# Altium schematic symbol library Microchip Interface.SchLib: 331 symbols (part 5 of 10)
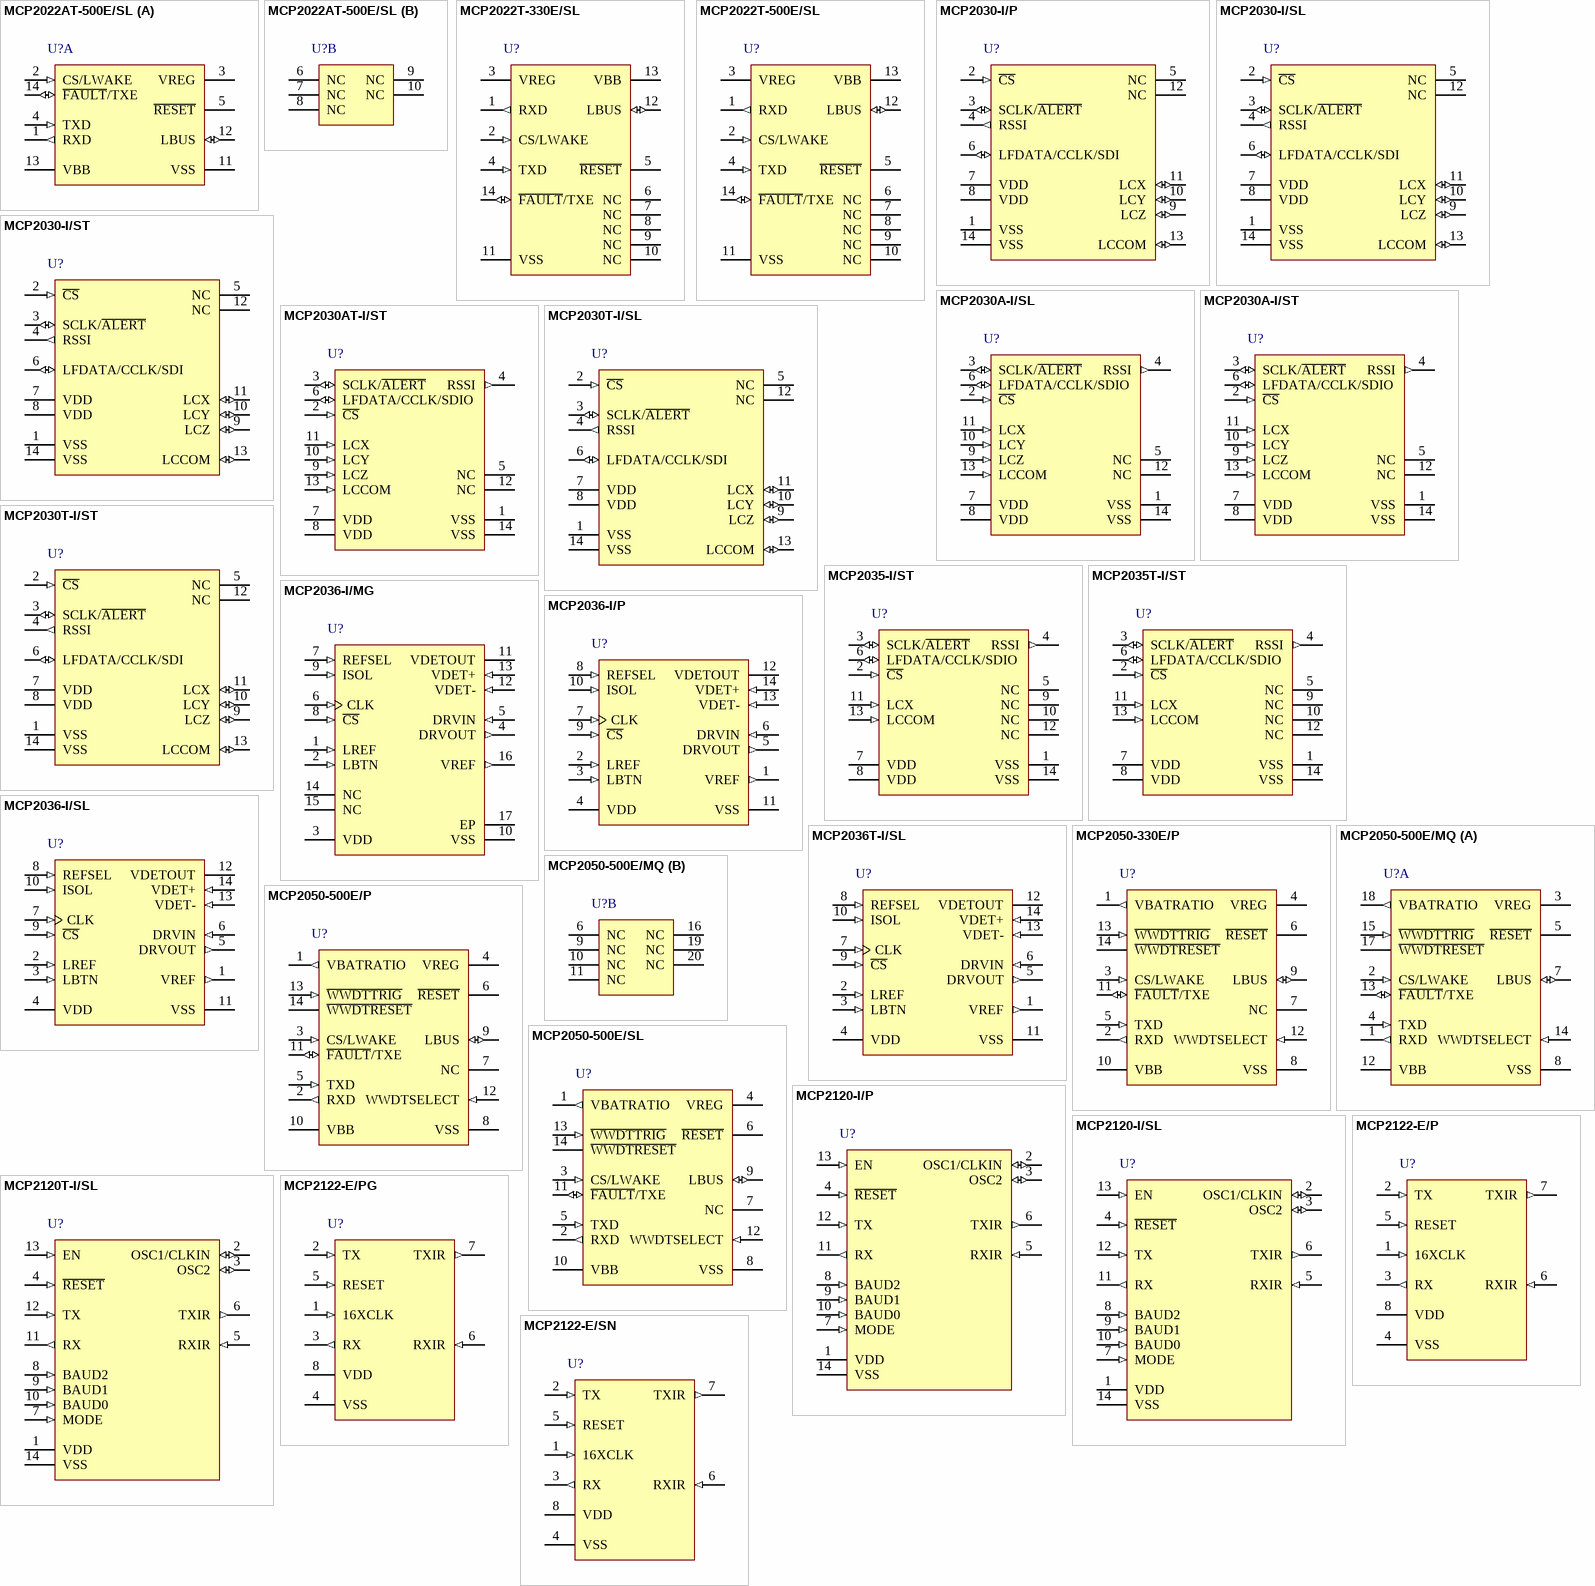
[diagram p17: symbols MCP2022AT-500E/SL to MCP2122-E/SN]

## MCP2036T-I/SL
designator U?
Inductive Sensor Analog Front End Device, -40 to 85 degC, 14-pin SOIC (SL14), Tape and Reel; Manufacturer: Microchip; PartNumber: MCP2036T-I/SL; DatasheetVersion: Rev. C; PackageVersion: C04-065C; PackageReference: SOIC-SL14; PackageDescription: 14-Lead Plastic Small Outline, 8.65 x 3.9 mm Body, 1.27 mm Pitch; Supplier 1: Digi-Key; Supplier Part Number 1: MCP2036T-I/SL-ND; Mounting Technology: Surface Mount; ComponentLink1Description: Manufacturer URL; ComponentLink1URL: http://www.microchip.com; ComponentLink2Description: Datasheet; ComponentLink2URL: http://ww1.microchip.com/downloads/en/DeviceDoc/22186C.pdf; ComponentLink3Description: Package Specification; ComponentLink3URL: http://www.microchip.com/stellent/groups/techpub_sg/documents/packagingspec/en012702.pdf; ComponentLink4Description: Product URL; ComponentLink4URL: http://www.microchip.com/MCP2036
footprint MCHP-SOIC-SL14_N (SOIC, 14-Leads, Body 8.65x3.9mm, Pitch 1.27mm, IPC Medium Density)
footprint MCHP-SOIC-SL14_L (SOIC, 14-Leads, Body 8.65x3.9mm, Pitch 1.27mm, IPC High Density)
footprint MCHP-SOIC-SL14_M (SOIC, 14-Leads, Body 8.65x3.9mm, Pitch 1.27mm, IPC Low Density)
pins: 1 VREF (out) "Voltage Reference", 2 LREF (in) "Reference Inductor Input", 3 LBTN (in) "Active Inductor Input", 4 VDD (power) "Power Supply", 5 DRVOUT (out) "Current Driver Output for Inductors", 6 DRVIN (in) "Current Driver Input", 7 CLK (in) "Clock Signal", 8 REFSEL (in) "Detector Select Input", 9 ~{CS} (in) "Chip Select, Active low", 10 ISOL (in) "Detector Isolation Control Input, high = isolate", 11 VSS (power) "Power Supply Return", 12 VDETOUT (hiz) "Detector Output Voltage", 13 VDET- (in) "Negative Input for Output Detector", 14 VDET+ (in) "Positive Input for Output Detector"

## MCP2050-330E/P
designator U?
LIN Transceiver with Voltage Regulator, 6 to 18 V, -40 to 125 degC, 14-pin PDIP (P14), Tube; Manufacturer: Microchip; PartNumber: MCP2050-330E/P; DatasheetVersion: Rev. B; PackageVersion: C04-005B; PackageReference: PDIP-P14; PackageDescription: 14-Lead Plastic Dual In-Line, 6.6 x 19.18 mm Body, 2.54 mm Pitch; Mounting Technology: Through Hole; ComponentLink1Description: Manufacturer URL; ComponentLink1URL: http://www.microchip.com; ComponentLink2Description: Datasheet; ComponentLink2URL: http://ww1.microchip.com/downloads/en/DeviceDoc/22299B.pdf; ComponentLink3Description: Package Specification; ComponentLink3URL: http://www.microchip.com/stellent/groups/techpub_sg/documents/packagingspec/en012702.pdf; ComponentLink4Description: Product URL; ComponentLink4URL: http://www.microchip.com/MCP2050
footprint MCHP-PDIP-P14 (DIP, 14-Leads, Body 19.177x6.604mm, Pitch 2.54mm)
pins: 1 VBATRATIO (out) "VBATRATIO = VBAT/24 * VREG", 2 RXD (out) "Receive Data Output", 3 CS/LWAKE (in) "Chip Select and Local Wake-up Input", 4 VREG (power) "Voltage Regulator Output", 5 TXD (in) "Transmit Data Input", 6 ~{RESET} (oc) "Reset Output", 7 NC "Not Connected", 8 VSS (power) "Ground", 9 LBUS (io) "LIN Bus", 10 VBB (power) "Battery", 11 ~{FAULT}/TXE (io) "Fault Detect Output/Transmitter Enable Input", 12 WWDTSELECT (in) "A Resistor between this Pin and Ground determines the Watchdog Window length", 13 ~{WWDTTRIG} (in) "Windowed Watchdog Trigger Input", 14 ~{WWDTRESET} (oc) "Windowed Watchdog Reset Output"

## MCP2050-500E/MQ
designator U?
LIN Transceiver with Voltage Regulator, 200 uA, 6 to 18 V, -40 to 125 degC, 14-pin QFN (MQ14), Tube; Manufacturer: Microchip; PartNumber: MCP2050-500E/MQ; DatasheetVersion: Rev. B; PackageVersion: C04-139B; PackageReference: QFN-MQ20; PackageDescription: 20-Lead Plastic Quad Flat, No Lead Package, 5 x 5 mm Body, 0.65 mm Pitch; Supplier 1: Newark; Supplier Part Number 1: 90T5955; Mounting Technology: Surface Mount; ComponentLink1Description: Manufacturer URL; ComponentLink1URL: http://www.microchip.com; ComponentLink2Description: Datasheet; ComponentLink2URL: http://ww1.microchip.com/downloads/en/DeviceDoc/22299B.pdf; ComponentLink3Description: Package Specification; ComponentLink3URL: http://www.microchip.com/stellent/groups/techpub_sg/documents/packagingspec/en012702.pdf; ComponentLink4Description: Product URL; ComponentLink4URL: http://www.microchip.com/MCP2050
footprint MCHP-QFN-MQ20_N (QFN, 20-Leads, Body 5x5mm, Pitch 0.65mm, Thermal Pad 3.25x3.25mm, IPC Medium Density)
footprint MCHP-QFN-MQ20_L (QFN, 20-Leads, Body 5x5mm, Pitch 0.65mm, Thermal Pad 3.25x3.25mm, IPC High Density)
footprint MCHP-QFN-MQ20_M (QFN, 20-Leads, Body 5x5mm, Pitch 0.65mm, Thermal Pad 3.25x3.25mm, IPC Low Density)
part A pins: 1 RXD (out) "Receive Data Output", 2 CS/LWAKE (in) "Chip Select and Local Wake-up Input", 3 VREG (power) "Voltage Regulator Output", 4 TXD (in) "Transmit Data Input", 5 ~{RESET} (oc) "Reset Output", 7 LBUS (io) "LIN Bus", 8 VSS (power) "Ground", 12 VBB (power) "Battery", 13 ~{FAULT}/TXE (io) "Fault Detect Output/Transmitter Enable Input", 14 WWDTSELECT (in) "A Resistor between this Pin and Ground determines the Watchdog Window length", 15 ~{WWDTTRIG} (in) "Windowed Watchdog Trigger Input", 17 ~{WWDTRESET} (oc) "Windowed Watchdog Reset Output", 18 VBATRATIO (out) "VBATRATIO = VBAT/24 * VREG"
part B pins: 6 NC "Not Connected", 9 NC "Not Connected", 10 NC "Not Connected", 11 NC "Not Connected", 16 NC "Not Connected", 19 NC "Not Connected", 20 NC "Not Connected"

## MCP2050-500E/P
designator U?
LIN Transceiver with Voltage Regulator, 200 uA, 6 to 18 V, -40 to 125 degC, 14-pin PDIP (P14), Tube; Manufacturer: Microchip; PartNumber: MCP2050-500E/P; DatasheetVersion: Rev. B; PackageVersion: C04-005B; PackageReference: PDIP-P14; PackageDescription: 14-Lead Plastic Dual In-Line, 6.6 x 19.18 mm Body, 2.54 mm Pitch; Mounting Technology: Through Hole; ComponentLink1Description: Manufacturer URL; ComponentLink1URL: http://www.microchip.com; ComponentLink2Description: Datasheet; ComponentLink2URL: http://ww1.microchip.com/downloads/en/DeviceDoc/22299B.pdf; ComponentLink3Description: Package Specification; ComponentLink3URL: http://www.microchip.com/stellent/groups/techpub_sg/documents/packagingspec/en012702.pdf; ComponentLink4Description: Product URL; ComponentLink4URL: http://www.microchip.com/MCP2050
footprint MCHP-PDIP-P14 (DIP, 14-Leads, Body 19.177x6.604mm, Pitch 2.54mm)
pins: 1 VBATRATIO (out) "VBATRATIO = VBAT/24 * VREG", 2 RXD (out) "Receive Data Output", 3 CS/LWAKE (in) "Chip Select and Local Wake-up Input", 4 VREG (power) "Voltage Regulator Output", 5 TXD (in) "Transmit Data Input", 6 ~{RESET} (oc) "Reset Output", 7 NC "Not Connected", 8 VSS (power) "Ground", 9 LBUS (io) "LIN Bus", 10 VBB (power) "Battery", 11 ~{FAULT}/TXE (io) "Fault Detect Output/Transmitter Enable Input", 12 WWDTSELECT (in) "A Resistor between this Pin and Ground determines the Watchdog Window length", 13 ~{WWDTTRIG} (in) "Windowed Watchdog Trigger Input", 14 ~{WWDTRESET} (oc) "Windowed Watchdog Reset Output"

## MCP2050-500E/SL
designator U?
LIN Transceiver with Voltage Regulator, 200 uA, 6 to 18 V, -40 to 125 degC, 14-pin SOIC (SL14), Tube; Manufacturer: Microchip; PartNumber: MCP2050-500E/SL; DatasheetVersion: Rev. B; PackageVersion: C04-065C; PackageReference: SOIC-SL14; PackageDescription: 14-Lead Plastic Small Outline, 8.65 x 3.9 mm Body, 1.27 mm Pitch; Supplier 1: Digi-Key; Supplier Part Number 1: MCP2050-500E/SL-ND; Mounting Technology: Surface Mount; ComponentLink1Description: Manufacturer URL; ComponentLink1URL: http://www.microchip.com; ComponentLink2Description: Datasheet; ComponentLink2URL: http://ww1.microchip.com/downloads/en/DeviceDoc/22299B.pdf; ComponentLink3Description: Package Specification; ComponentLink3URL: http://www.microchip.com/stellent/groups/techpub_sg/documents/packagingspec/en012702.pdf; ComponentLink4Description: Product URL; ComponentLink4URL: http://www.microchip.com/MCP2050
footprint MCHP-SOIC-SL14_N (SOIC, 14-Leads, Body 8.65x3.9mm, Pitch 1.27mm, IPC Medium Density)
footprint MCHP-SOIC-SL14_L (SOIC, 14-Leads, Body 8.65x3.9mm, Pitch 1.27mm, IPC High Density)
footprint MCHP-SOIC-SL14_M (SOIC, 14-Leads, Body 8.65x3.9mm, Pitch 1.27mm, IPC Low Density)
pins: 1 VBATRATIO (out) "VBATRATIO = VBAT/24 * VREG", 2 RXD (out) "Receive Data Output", 3 CS/LWAKE (in) "Chip Select and Local Wake-up Input", 4 VREG (power) "Voltage Regulator Output", 5 TXD (in) "Transmit Data Input", 6 ~{RESET} (oc) "Reset Output", 7 NC "Not Connected", 8 VSS (power) "Ground", 9 LBUS (io) "LIN Bus", 10 VBB (power) "Battery", 11 ~{FAULT}/TXE (io) "Fault Detect Output/Transmitter Enable Input", 12 WWDTSELECT (in) "A Resistor between this Pin and Ground determines the Watchdog Window length", 13 ~{WWDTTRIG} (in) "Windowed Watchdog Trigger Input", 14 ~{WWDTRESET} (oc) "Windowed Watchdog Reset Output"

## MCP2120-I/P
designator U?
Infrared Encoder/Decoder, 14-Pin PDIP, Industrial Temperature; Manufacturer: Microchip; PartNumber: MCP2120-I/P; DatasheetVersion: revB, Feb-2007; PackageVersion: revBB, Aug-2009; PackageReference: PDIP300-P14; PackageDescription: 14-Lead Plastic Dual In-Line (P) - 300 mil Body [PDIP]; Supplier 1: Digi-Key; Supplier Part Number 1: MCP2120-I/P-ND; Mounting Technology: Through Hole; ComponentLink1Description: Manufacturer URL; ComponentLink1URL: http://www.microchip.com/; ComponentLink2Description: Datasheet; ComponentLink2URL: http://ww1.microchip.com/downloads/en/DeviceDoc/21618b.pdf; ComponentLink3Description: Package Specification; ComponentLink3URL: http://www.microchip.com/stellent/groups/techpub_sg/documents/packagingspec/en012702.pdf
footprint PDIP300-P14 (DIP, 14-Leads, Row Spacing 7.62mm, Pitch 2.54mm, Body 19.2x6.6mm)
pins: 1 VDD (power), 2 OSC1/CLKIN (io), 3 OSC2 (io), 4 ~{RESET} (in), 5 RXIR (in), 6 TXIR (out), 7 MODE (in), 8 BAUD2 (in), 9 BAUD1 (in), 10 BAUD0 (in), 11 RX (out), 12 TX (in), 13 EN (in), 14 VSS (power)

## MCP2120-I/SL
designator U?
Infrared Encoder/Decoder, 14-Pin SOIC, Industrial Temperature; Manufacturer: Microchip; PartNumber: MCP2120-I/SL; DatasheetVersion: revB, Feb-2007; PackageVersion: revBB, Aug-2009; PackageReference: SOIC-SL14; PackageDescription: 14-Lead Plastic Small Outline (SL) - Narrow, 3.90mm Body [SOIC]; Supplier 1: Digi-Key; Supplier Part Number 1: MCP2120-I/SL-ND; Mounting Technology: Surface Mount; Code_JEDEC: MS-012-AB; Code_IPC: SOIC127P600-14; ComponentLink1Description: Manufacturer URL; ComponentLink1URL: http://www.microchip.com/; ComponentLink2Description: Datasheet; ComponentLink2URL: http://ww1.microchip.com/downloads/en/DeviceDoc/21618b.pdf; ComponentLink3Description: Package Specification; ComponentLink3URL: http://www.microchip.com/stellent/groups/techpub_sg/documents/packagingspec/en012702.pdf
footprint SOIC-SL14_N (SOIC, 14-Leads, Body 8.7x3.9mm, Pitch 1.27mm, IPC Medium Density)
footprint SOIC-SL14_L (SOIC, 14-Leads, Body 8.7x3.9mm, Pitch 1.27mm, IPC High Density)
footprint SOIC-SL14_M (SOIC, 14-Leads, Body 8.7x3.9mm, Pitch 1.27mm, IPC Low Density)
pins: 1 VDD (power), 2 OSC1/CLKIN (io), 3 OSC2 (io), 4 ~{RESET} (in), 5 RXIR (in), 6 TXIR (out), 7 MODE (in), 8 BAUD2 (in), 9 BAUD1 (in), 10 BAUD0 (in), 11 RX (out), 12 TX (in), 13 EN (in), 14 VSS (power)

## MCP2120T-I/SL
designator U?
Infrared Encoder/Decoder, 14-Pin SOIC, Industrial Temperature, Tape and Reel; Manufacturer: Microchip; PartNumber: MCP2120T-I/SL; DatasheetVersion: revB, Feb-2007; PackageVersion: revBB, Aug-2009; PackageReference: SOIC-SL14; PackageDescription: 14-Lead Plastic Small Outline (SL) - Narrow, 3.90mm Body [SOIC]; Supplier 1: Digi-Key; Supplier Part Number 1: MCP2120T-I/SL-ND; Mounting Technology: Surface Mount; Code_JEDEC: MS-012-AB; Code_IPC: SOIC127P600-14; ComponentLink1Description: Manufacturer URL; ComponentLink1URL: http://www.microchip.com/; ComponentLink2Description: Datasheet; ComponentLink2URL: http://ww1.microchip.com/downloads/en/DeviceDoc/21618b.pdf; ComponentLink3Description: Package Specification; ComponentLink3URL: http://www.microchip.com/stellent/groups/techpub_sg/documents/packagingspec/en012702.pdf
footprint SOIC-SL14_N (SOIC, 14-Leads, Body 8.7x3.9mm, Pitch 1.27mm, IPC Medium Density)
footprint SOIC-SL14_L (SOIC, 14-Leads, Body 8.7x3.9mm, Pitch 1.27mm, IPC High Density)
footprint SOIC-SL14_M (SOIC, 14-Leads, Body 8.7x3.9mm, Pitch 1.27mm, IPC Low Density)
pins: 1 VDD (power), 2 OSC1/CLKIN (io), 3 OSC2 (io), 4 ~{RESET} (in), 5 RXIR (in), 6 TXIR (out), 7 MODE (in), 8 BAUD2 (in), 9 BAUD1 (in), 10 BAUD0 (in), 11 RX (out), 12 TX (in), 13 EN (in), 14 VSS (power)

## MCP2122-E/P
designator U?
Infrared Encoder/Decoder, PDIP, Extended Temperature; Manufacturer: Microchip; PartNumber: MCP2122-E/P; DatasheetVersion: revC, Feb-2007; PackageVersion: revBB, Aug-2009; PackageReference: PDIP300-P8; PackageDescription: 8-Lead Plastic Dual In-Line (P) - 300 mil Body [PDIP]; Supplier 1: Digi-Key; Supplier Part Number 1: MCP2122-E/P-ND; Mounting Technology: Through Hole; Code_JEDEC: MS-001; ComponentLink1Description: Manufacturer URL; ComponentLink1URL: http://www.microchip.com/; ComponentLink2Description: Datasheet; ComponentLink2URL: http://ww1.microchip.com/downloads/en/DeviceDoc/21894c.pdf; ComponentLink3Description: Package Specification; ComponentLink3URL: http://www.microchip.com/stellent/groups/techpub_sg/documents/packagingspec/en012702.pdf
footprint PDIP300-P8 (DIP, 8-Leads, Row Spacing 7.62mm, Pitch 2.54mm, Body 9.5x6.6mm)
pins: 1 16XCLK (in), 2 TX (in), 3 RX (out), 4 VSS (power), 5 RESET (in), 6 RXIR (in), 7 TXIR (out), 8 VDD (power)

## MCP2122-E/PG
designator U?
Infrared Encoder/Decoder, PDIP, Extended Temperature; Manufacturer: Microchip; PartNumber: MCP2122-E/PG; DatasheetVersion: revC, Feb-2007; PackageVersion: revBB, Aug-2009; PackageReference: PDIP300-P8; PackageDescription: 8-Lead Plastic Dual In-Line (P) - 300 mil Body [PDIP]; Supplier 1: Digi-Key; Supplier Part Number 1: MCP2122-E/PG-ND; Mounting Technology: Through Hole; Code_JEDEC: MS-001; ComponentLink1Description: Manufacturer URL; ComponentLink1URL: http://www.microchip.com/; ComponentLink2Description: Datasheet; ComponentLink2URL: http://ww1.microchip.com/downloads/en/DeviceDoc/21894c.pdf; ComponentLink3Description: Package Specification; ComponentLink3URL: http://www.microchip.com/stellent/groups/techpub_sg/documents/packagingspec/en012702.pdf
footprint PDIP300-P8 (DIP, 8-Leads, Row Spacing 7.62mm, Pitch 2.54mm, Body 9.5x6.6mm)
pins: 1 16XCLK (in), 2 TX (in), 3 RX (out), 4 VSS (power), 5 RESET (in), 6 RXIR (in), 7 TXIR (out), 8 VDD (power)

## MCP2122-E/SN
designator U?
Infrared Encoder/Decoder, SOIC, Extended Temperature; Manufacturer: Microchip; PartNumber: MCP2122-E/SN; DatasheetVersion: revC, Feb-2007; PackageVersion: revBB, Aug-2009; PackageReference: SOIC-SN8; PackageDescription: 8-Lead Plastic Small Outline (SN) - Narrow, 3.90mm Body [SOIC]; Supplier 1: Digi-Key; Supplier Part Number 1: MCP2122-E/SN-ND; Mounting Technology: Surface Mount; Code_JEDEC: MS-012; Code_IPC: SOIC127P600-8; ComponentLink1Description: Manufacturer URL; ComponentLink1URL: http://www.microchip.com/; ComponentLink2Description: Datasheet; ComponentLink2URL: http://ww1.microchip.com/downloads/en/DeviceDoc/21894c.pdf; ComponentLink3Description: Package Specification; ComponentLink3URL: http://www.microchip.com/stellent/groups/techpub_sg/documents/packagingspec/en012702.pdf
footprint SOIC-SN8_N (SOIC, 8-Leads, Body 4.9x3.8mm, Pitch 1.27mm, IPC Medium Density)
footprint SOIC-SN8_L (SOIC, 8-Leads, Body 4.9x3.8mm, Pitch 1.27mm, IPC High Density)
footprint SOIC-SN8_M (SOIC, 8-Leads, Body 4.9x3.8mm, Pitch 1.27mm, IPC Low Density)
pins: 1 16XCLK (in), 2 TX (in), 3 RX (out), 4 VSS (power), 5 RESET (in), 6 RXIR (in), 7 TXIR (out), 8 VDD (power)

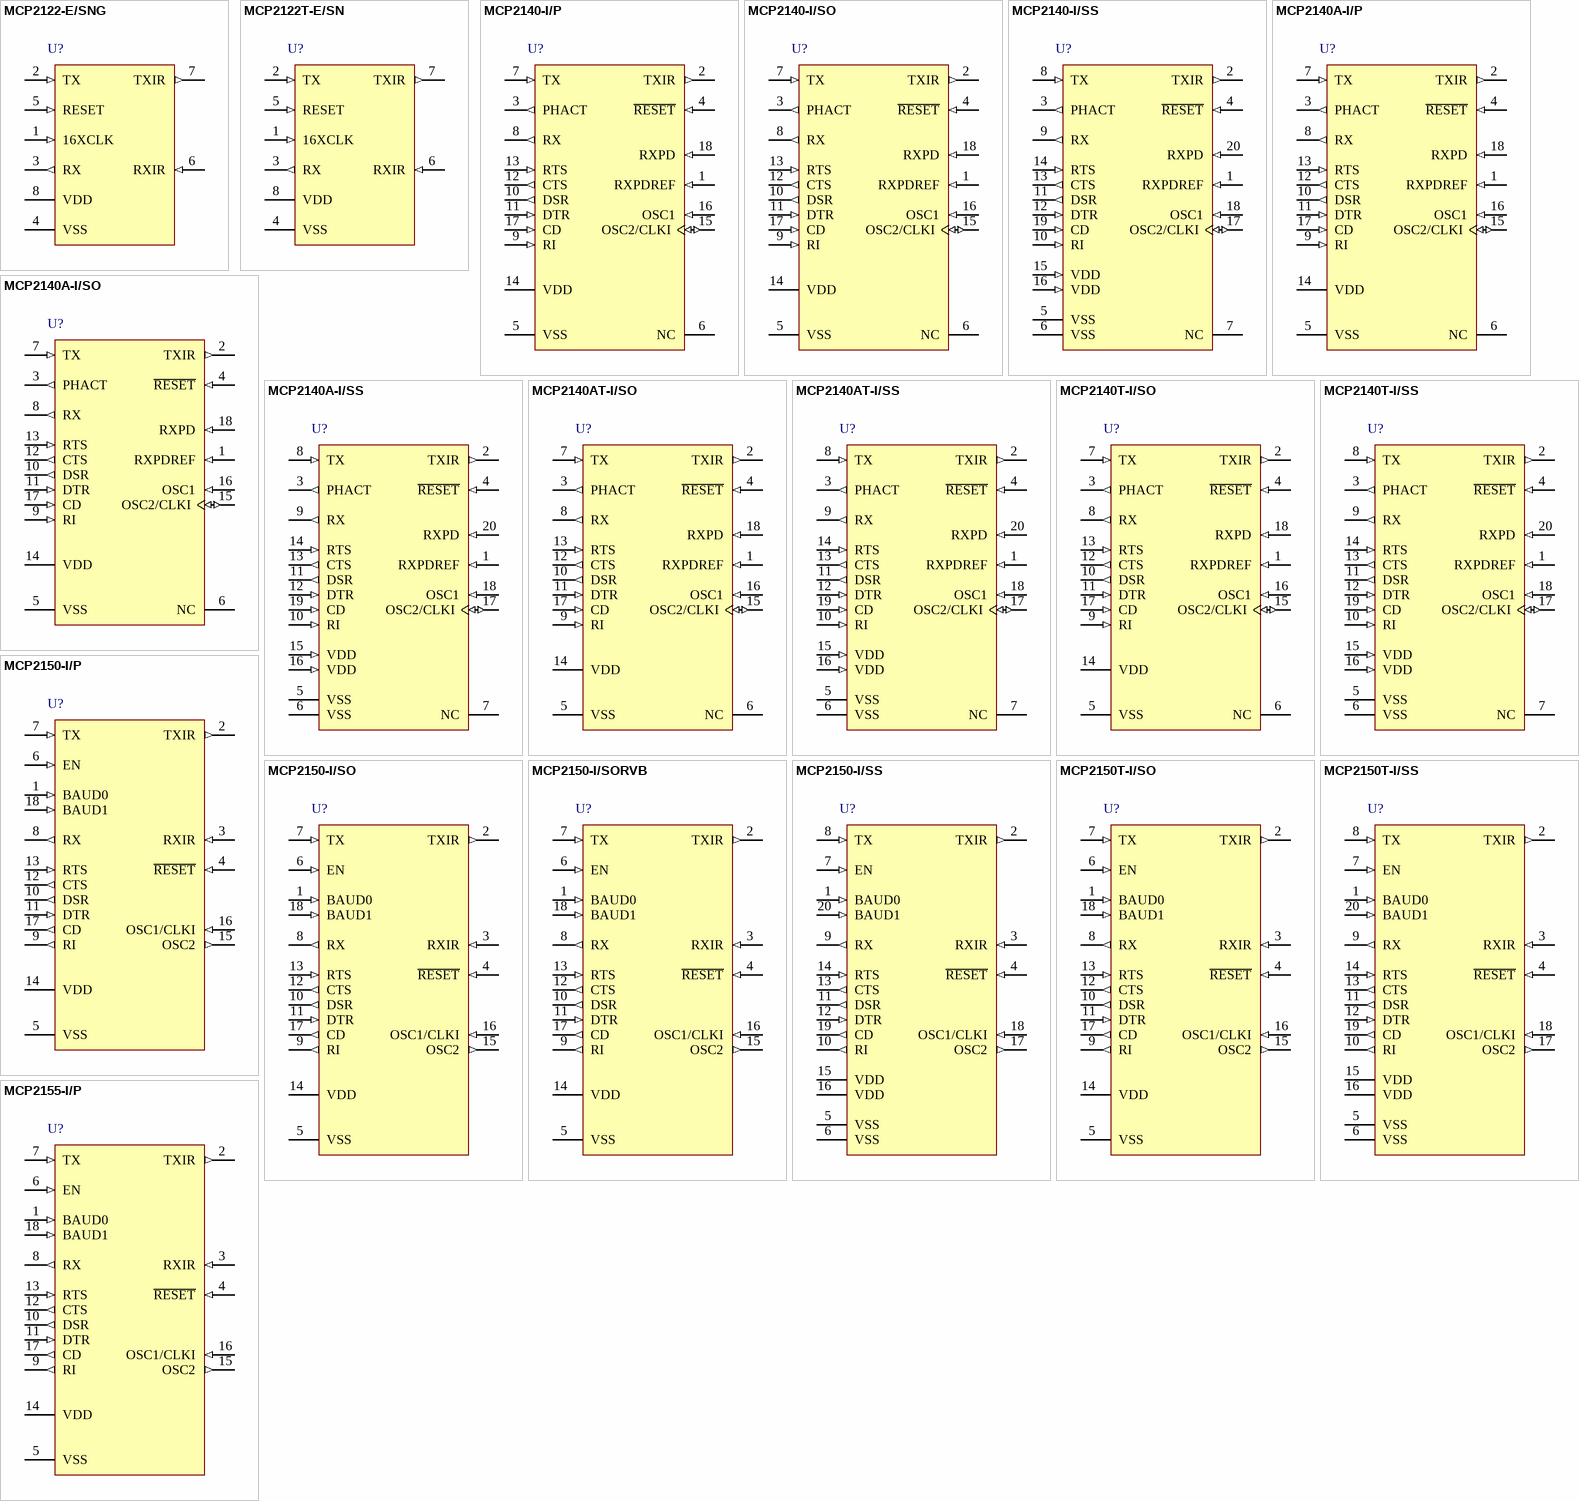
[diagram p7: symbols MCP2122-E/SNG to MCP2155-I/P]

## MCP2122-E/SNG
designator U?
Infrared Encoder/Decoder, 8-Pin SOIC, Extended Temperature; Manufacturer: Microchip; PartNumber: MCP2122-E/SNG; DatasheetVersion: revC, Feb-2007; PackageVersion: revBB, Aug-2009; PackageReference: SOIC-SN8; PackageDescription: 8-Lead Plastic Small Outline (SN) - Narrow, 3.90mm Body [SOIC]; Supplier 1: Mouser; Supplier Part Number 1: 579-MCP2122-E/SNG; Mounting Technology: Surface Mount; Code_JEDEC: MS-012; Code_IPC: SOIC127P600-8; ComponentLink1Description: Manufacturer URL; ComponentLink1URL: http://www.microchip.com/; ComponentLink2Description: Datasheet; ComponentLink2URL: http://ww1.microchip.com/downloads/en/DeviceDoc/21894c.pdf; ComponentLink3Description: Package Specification; ComponentLink3URL: http://www.microchip.com/stellent/groups/techpub_sg/documents/packagingspec/en012702.pdf
footprint SOIC-SN8_N (SOIC, 8-Leads, Body 4.9x3.8mm, Pitch 1.27mm, IPC Medium Density)
footprint SOIC-SN8_L (SOIC, 8-Leads, Body 4.9x3.8mm, Pitch 1.27mm, IPC High Density)
footprint SOIC-SN8_M (SOIC, 8-Leads, Body 4.9x3.8mm, Pitch 1.27mm, IPC Low Density)
pins: 1 16XCLK (in), 2 TX (in), 3 RX (out), 4 VSS (power), 5 RESET (in), 6 RXIR (in), 7 TXIR (out), 8 VDD (power)

## MCP2122T-E/SN
designator U?
Infrared Encoder/Decoder, SOIC, Extended Temperature, Tape and Reel; Manufacturer: Microchip; PartNumber: MCP2122T-E/SN; DatasheetVersion: revC, Feb-2007; PackageVersion: revBB, Aug-2009; PackageReference: SOIC-SN8; PackageDescription: 8-Lead Plastic Small Outline (SN) - Narrow, 3.90mm Body [SOIC]; Supplier 1: Digi-Key; Supplier Part Number 1: MCP2122T-E/SNTR-ND; Mounting Technology: Surface Mount; Code_JEDEC: MS-012; Code_IPC: SOIC127P600-8; ComponentLink1Description: Manufacturer URL; ComponentLink1URL: http://www.microchip.com/; ComponentLink2Description: Datasheet; ComponentLink2URL: http://ww1.microchip.com/downloads/en/DeviceDoc/21894c.pdf; ComponentLink3Description: Package Specification; ComponentLink3URL: http://www.microchip.com/stellent/groups/techpub_sg/documents/packagingspec/en012702.pdf
footprint SOIC-SN8_N (SOIC, 8-Leads, Body 4.9x3.8mm, Pitch 1.27mm, IPC Medium Density)
footprint SOIC-SN8_L (SOIC, 8-Leads, Body 4.9x3.8mm, Pitch 1.27mm, IPC High Density)
footprint SOIC-SN8_M (SOIC, 8-Leads, Body 4.9x3.8mm, Pitch 1.27mm, IPC Low Density)
pins: 1 16XCLK (in), 2 TX (in), 3 RX (out), 4 VSS (power), 5 RESET (in), 6 RXIR (in), 7 TXIR (out), 8 VDD (power)

## MCP2140-I/P
designator U?
IrDA® Standard Protocol Stack Controller With Fixed 9600 Baud Communication Rate, 18-Pin PDIP, Industrial Temperature; Manufacturer: Microchip; PartNumber: MCP2140-I/P; DatasheetVersion: revA, Sep-2003; PackageVersion: revBB, Aug-2009; PackageReference: PDIP300-P18; PackageDescription: 18-Lead Plastic Dual In-Line (P) - 300 mil Body [PDIP]; Supplier 1: Digi-Key; Supplier Part Number 1: MCP2140-I/P-ND; Mounting Technology: Through Hole; Code_JEDEC: MS-001; ComponentLink1Description: Manufacturer URL; ComponentLink1URL: http://www.microchip.com/; ComponentLink2Description: Datasheet; ComponentLink2URL: http://ww1.microchip.com/downloads/en/DeviceDoc/21790a.pdf; ComponentLink3Description: Package Specification; ComponentLink3URL: http://www.microchip.com/stellent/groups/techpub_sg/documents/packagingspec/en012702.pdf
footprint PDIP300-P18 (DIP, 18-Leads, Row Spacing 7.62mm, Pitch 2.54mm, Body 22.9x6.6mm)
pins: 1 RXPDREF (in), 2 TXIR (out), 3 PHACT (out), 4 ~{RESET} (in), 5 VSS (power), 6 NC, 7 TX (in), 8 RX (out), 9 RI (in), 10 DSR (out), 11 DTR (in), 12 CTS (out), 13 RTS (in), 14 VDD (power), 15 OSC2/CLKI (io), 16 OSC1 (in), 17 CD (in), 18 RXPD (in)

## MCP2140-I/SO
designator U?
IrDA® Standard Protocol Stack Controller With Fixed 9600 Baud Communication Rate, 18-Pin SOIC, Industrial Temperature; Manufacturer: Microchip; PartNumber: MCP2140-I/SO; DatasheetVersion: revA, Sep-2003; PackageVersion: revBB, Aug-2009; PackageReference: SOIC-SO18; PackageDescription: 18-Lead Plastic Small Outline (SO) - Wide 7.50mm Body [SOIC]; Supplier 1: Digi-Key; Supplier Part Number 1: MCP2140-I/SO-ND; Mounting Technology: Surface Mount; Code_JEDEC: MS-013; ComponentLink1Description: Manufacturer URL; ComponentLink1URL: http://www.microchip.com/; ComponentLink2Description: Datasheet; ComponentLink2URL: http://ww1.microchip.com/downloads/en/DeviceDoc/21790a.pdf; ComponentLink3Description: Package Specification; ComponentLink3URL: http://www.microchip.com/stellent/groups/techpub_sg/documents/packagingspec/en012702.pdf
footprint SOIC-SO18_N (SOIC, 18-Leads, Body 11.5x7.5mm, Pitch 1.27mm, IPC Medium Density)
footprint SOIC-SO18_L (SOIC, 18-Leads, Body 11.5x7.5mm, Pitch 1.27mm, IPC High Density)
footprint SOIC-SO18_M (SOIC, 18-Leads, Body 11.5x7.5mm, Pitch 1.27mm, IPC Low Density)
pins: 1 RXPDREF (in), 2 TXIR (out), 3 PHACT (out), 4 ~{RESET} (in), 5 VSS (power), 6 NC, 7 TX (in), 8 RX (out), 9 RI (in), 10 DSR (out), 11 DTR (in), 12 CTS (out), 13 RTS (in), 14 VDD (power), 15 OSC2/CLKI (io), 16 OSC1 (in), 17 CD (in), 18 RXPD (in)

## MCP2140-I/SS
designator U?
IrDA® Standard Protocol Stack Controller With Fixed 9600 Baud Communication Rate, 20-Pin SSOP, Industrial Temperature; Manufacturer: Microchip; PartNumber: MCP2140-I/SS; DatasheetVersion: revA, Sep-2003; PackageVersion: revBB, Aug-2009; PackageReference: SSOP-SS20; PackageDescription: 20-Lead Plastic Shrink Small Outline (SS) - 5.3mm Body [SSOP]; Supplier 1: Digi-Key; Supplier Part Number 1: MCP2140-I/SS-ND; Mounting Technology: Surface Mount; Code_JEDEC: MO-150; ComponentLink1Description: Manufacturer URL; ComponentLink1URL: http://www.microchip.com/; ComponentLink2Description: Datasheet; ComponentLink2URL: http://ww1.microchip.com/downloads/en/DeviceDoc/21790a.pdf; ComponentLink3Description: Package Specification; ComponentLink3URL: http://www.microchip.com/stellent/groups/techpub_sg/documents/packagingspec/en012702.pdf
footprint SSOP-SS20_N (SOP, 20-Leads, Body 7.2x5.2mm, Pitch 0.65mm, IPC Medium Density)
footprint SSOP-SS20_L (SOP, 20-Leads, Body 7.2x5.2mm, Pitch 0.65mm, IPC High Density)
footprint SSOP-SS20_M (SOP, 20-Leads, Body 7.2x5.2mm, Pitch 0.65mm, IPC Low Density)
pins: 1 RXPDREF (in), 2 TXIR (out), 3 PHACT (out), 4 ~{RESET} (in), 5 VSS (power), 6 VSS (power), 7 NC, 8 TX (in), 9 RX (out), 10 RI (in), 11 DSR (out), 12 DTR (in), 13 CTS (out), 14 RTS (in), 15 VDD (in), 16 VDD (in), 17 OSC2/CLKI (io), 18 OSC1 (in), 19 CD (in), 20 RXPD (in)

## MCP2140A-I/P
designator U?
IrDA® Standard Protocol Stack Controller With Fixed 9600 Baud Communication Rate, 18-Pin PDIP, Industrial Temperature; Manufacturer: Microchip; PartNumber: MCP2140A-I/P; DatasheetVersion: revB, Oct-2011; PackageVersion: revBB, Aug-2009; PackageReference: PDIP300-P18; PackageDescription: 18-Lead Plastic Dual In-Line (P) - 300 mil Body [PDIP]; Supplier 1: Digi-Key; Supplier Part Number 1: MCP2140A-I/P-ND; Mounting Technology: Through Hole; Code_JEDEC: MS-001; ComponentLink1Description: Manufacturer URL; ComponentLink1URL: http://www.microchip.com/; ComponentLink2Description: Datasheet; ComponentLink2URL: http://ww1.microchip.com/downloads/en/DeviceDoc/22050B.pdf; ComponentLink3Description: Package Specification; ComponentLink3URL: http://www.microchip.com/stellent/groups/techpub_sg/documents/packagingspec/en012702.pdf
footprint PDIP300-P18 (DIP, 18-Leads, Row Spacing 7.62mm, Pitch 2.54mm, Body 22.9x6.6mm)
pins: 1 RXPDREF (in), 2 TXIR (out), 3 PHACT (out), 4 ~{RESET} (in), 5 VSS (power), 6 NC, 7 TX (in), 8 RX (out), 9 RI (in), 10 DSR (out), 11 DTR (in), 12 CTS (out), 13 RTS (in), 14 VDD (power), 15 OSC2/CLKI (io), 16 OSC1 (in), 17 CD (in), 18 RXPD (in)

## MCP2140A-I/SO
designator U?
IrDA® Standard Protocol Stack Controller With Fixed 9600 Baud Communication Rate, 18-Pin SOIC, Industrial Temperature; Manufacturer: Microchip; PartNumber: MCP2140A-I/SO; DatasheetVersion: revB, Oct-2011; PackageVersion: revBB, Aug-2009; PackageReference: SOIC-SO18; PackageDescription: 18-Lead Plastic Small Outline (SO) - Wide 7.50mm Body [SOIC]; Supplier 1: Digi-Key; Supplier Part Number 1: MCP2140A-I/SO-ND; Mounting Technology: Surface Mount; Code_JEDEC: MS-013; ComponentLink1Description: Manufacturer URL; ComponentLink1URL: http://www.microchip.com/; ComponentLink2Description: Datasheet; ComponentLink2URL: http://ww1.microchip.com/downloads/en/DeviceDoc/22050B.pdf; ComponentLink3Description: Package Specification; ComponentLink3URL: http://www.microchip.com/stellent/groups/techpub_sg/documents/packagingspec/en012702.pdf
footprint SOIC-SO18_N (SOIC, 18-Leads, Body 11.5x7.5mm, Pitch 1.27mm, IPC Medium Density)
footprint SOIC-SO18_L (SOIC, 18-Leads, Body 11.5x7.5mm, Pitch 1.27mm, IPC High Density)
footprint SOIC-SO18_M (SOIC, 18-Leads, Body 11.5x7.5mm, Pitch 1.27mm, IPC Low Density)
pins: 1 RXPDREF (in), 2 TXIR (out), 3 PHACT (out), 4 ~{RESET} (in), 5 VSS (power), 6 NC, 7 TX (in), 8 RX (out), 9 RI (in), 10 DSR (out), 11 DTR (in), 12 CTS (out), 13 RTS (in), 14 VDD (power), 15 OSC2/CLKI (io), 16 OSC1 (in), 17 CD (in), 18 RXPD (in)

## MCP2140A-I/SS
designator U?
IrDA® Standard Protocol Stack Controller With Fixed 9600 Baud Communication Rate, 20-Pin SSOP, Industrial Temperature; Manufacturer: Microchip; PartNumber: MCP2140A-I/SS; DatasheetVersion: revB, Oct-2011; PackageVersion: revBB, Aug-2009; PackageReference: SSOP-SS20; PackageDescription: 20-Lead Plastic Shrink Small Outline (SS) - 5.3mm Body [SSOP]; Supplier 1: Digi-Key; Supplier Part Number 1: MCP2140A-I/SS-ND; Mounting Technology: Surface Mount; Code_JEDEC: MO-150; ComponentLink1Description: Manufacturer URL; ComponentLink1URL: http://www.microchip.com/; ComponentLink2Description: Datasheet; ComponentLink2URL: http://ww1.microchip.com/downloads/en/DeviceDoc/22050B.pdf; ComponentLink3Description: Package Specification; ComponentLink3URL: http://www.microchip.com/stellent/groups/techpub_sg/documents/packagingspec/en012702.pdf
footprint SSOP-SS20_N (SOP, 20-Leads, Body 7.2x5.2mm, Pitch 0.65mm, IPC Medium Density)
footprint SSOP-SS20_L (SOP, 20-Leads, Body 7.2x5.2mm, Pitch 0.65mm, IPC High Density)
footprint SSOP-SS20_M (SOP, 20-Leads, Body 7.2x5.2mm, Pitch 0.65mm, IPC Low Density)
pins: 1 RXPDREF (in), 2 TXIR (out), 3 PHACT (out), 4 ~{RESET} (in), 5 VSS (power), 6 VSS (power), 7 NC, 8 TX (in), 9 RX (out), 10 RI (in), 11 DSR (out), 12 DTR (in), 13 CTS (out), 14 RTS (in), 15 VDD (in), 16 VDD (in), 17 OSC2/CLKI (io), 18 OSC1 (in), 19 CD (in), 20 RXPD (in)

## MCP2140AT-I/SO
designator U?
IrDA® Standard Protocol Stack Controller With Fixed 9600 Baud Communication Rate, 18-Pin SOIC, Industrial Temperature, Tape and Reel; Manufacturer: Microchip; PartNumber: MCP2140AT-I/SO; DatasheetVersion: revB, Oct-2011; PackageVersion: revBB, Aug-2009; PackageReference: SOIC-SO18; PackageDescription: 18-Lead Plastic Small Outline (SO) - Wide 7.50mm Body [SOIC]; Supplier 1: Digi-Key; Supplier Part Number 1: MCP2140AT-I/SOTR-ND; Mounting Technology: Surface Mount; Code_JEDEC: MS-013; ComponentLink1Description: Manufacturer URL; ComponentLink1URL: http://www.microchip.com/; ComponentLink2Description: Datasheet; ComponentLink2URL: http://ww1.microchip.com/downloads/en/DeviceDoc/22050B.pdf; ComponentLink3Description: Package Specification; ComponentLink3URL: http://www.microchip.com/stellent/groups/techpub_sg/documents/packagingspec/en012702.pdf
footprint SOIC-SO18_N (SOIC, 18-Leads, Body 11.5x7.5mm, Pitch 1.27mm, IPC Medium Density)
footprint SOIC-SO18_L (SOIC, 18-Leads, Body 11.5x7.5mm, Pitch 1.27mm, IPC High Density)
footprint SOIC-SO18_M (SOIC, 18-Leads, Body 11.5x7.5mm, Pitch 1.27mm, IPC Low Density)
pins: 1 RXPDREF (in), 2 TXIR (out), 3 PHACT (out), 4 ~{RESET} (in), 5 VSS (power), 6 NC, 7 TX (in), 8 RX (out), 9 RI (in), 10 DSR (out), 11 DTR (in), 12 CTS (out), 13 RTS (in), 14 VDD (power), 15 OSC2/CLKI (io), 16 OSC1 (in), 17 CD (in), 18 RXPD (in)

## MCP2140AT-I/SS
designator U?
IrDA® Standard Protocol Stack Controller With Fixed 9600 Baud Communication Rate, 20-Pin SSOP, Industrial Temperature, Tape and Reel; Manufacturer: Microchip; PartNumber: MCP2140AT-I/SS; DatasheetVersion: revB, Oct-2011; PackageVersion: revBB, Aug-2009; PackageReference: SSOP-SS20; PackageDescription: 20-Lead Plastic Shrink Small Outline (SS) - 5.3mm Body [SSOP]; Supplier 1: Digi-Key; Supplier Part Number 1: MCP2140AT-I/SSTR-ND; Mounting Technology: Surface Mount; Code_JEDEC: MO-150; ComponentLink1Description: Manufacturer URL; ComponentLink1URL: http://www.microchip.com/; ComponentLink2Description: Datasheet; ComponentLink2URL: http://ww1.microchip.com/downloads/en/DeviceDoc/22050B.pdf; ComponentLink3Description: Package Specification; ComponentLink3URL: http://www.microchip.com/stellent/groups/techpub_sg/documents/packagingspec/en012702.pdf
footprint SSOP-SS20_N (SOP, 20-Leads, Body 7.2x5.2mm, Pitch 0.65mm, IPC Medium Density)
footprint SSOP-SS20_L (SOP, 20-Leads, Body 7.2x5.2mm, Pitch 0.65mm, IPC High Density)
footprint SSOP-SS20_M (SOP, 20-Leads, Body 7.2x5.2mm, Pitch 0.65mm, IPC Low Density)
pins: 1 RXPDREF (in), 2 TXIR (out), 3 PHACT (out), 4 ~{RESET} (in), 5 VSS (power), 6 VSS (power), 7 NC, 8 TX (in), 9 RX (out), 10 RI (in), 11 DSR (out), 12 DTR (in), 13 CTS (out), 14 RTS (in), 15 VDD (in), 16 VDD (in), 17 OSC2/CLKI (io), 18 OSC1 (in), 19 CD (in), 20 RXPD (in)

## MCP2140T-I/SO
designator U?
IrDA® Standard Protocol Stack Controller With Fixed 9600 Baud Communication Rate, 18-Pin SOIC, Industrial Temperature, Tape and Reel; Manufacturer: Microchip; PartNumber: MCP2140T-I/SO; DatasheetVersion: revA, Sep-2003; PackageVersion: revBB, Aug-2009; PackageReference: SOIC-SO18; PackageDescription: 18-Lead Plastic Small Outline (SO) - Wide 7.50mm Body [SOIC]; Supplier 1: Digi-Key; Supplier Part Number 1: MCP2140T-I/SO-ND; Mounting Technology: Surface Mount; Code_JEDEC: MS-013; ComponentLink1Description: Manufacturer URL; ComponentLink1URL: http://www.microchip.com/; ComponentLink2Description: Datasheet; ComponentLink2URL: http://ww1.microchip.com/downloads/en/DeviceDoc/21790a.pdf; ComponentLink3Description: Package Specification; ComponentLink3URL: http://www.microchip.com/stellent/groups/techpub_sg/documents/packagingspec/en012702.pdf
footprint SOIC-SO18_N (SOIC, 18-Leads, Body 11.5x7.5mm, Pitch 1.27mm, IPC Medium Density)
footprint SOIC-SO18_L (SOIC, 18-Leads, Body 11.5x7.5mm, Pitch 1.27mm, IPC High Density)
footprint SOIC-SO18_M (SOIC, 18-Leads, Body 11.5x7.5mm, Pitch 1.27mm, IPC Low Density)
pins: 1 RXPDREF (in), 2 TXIR (out), 3 PHACT (out), 4 ~{RESET} (in), 5 VSS (power), 6 NC, 7 TX (in), 8 RX (out), 9 RI (in), 10 DSR (out), 11 DTR (in), 12 CTS (out), 13 RTS (in), 14 VDD (power), 15 OSC2/CLKI (io), 16 OSC1 (in), 17 CD (in), 18 RXPD (in)

## MCP2140T-I/SS
designator U?
IrDA® Standard Protocol Stack Controller With Fixed 9600 Baud Communication Rate, 20-Pin SSOP, Industrial Temperature, Tape and Reel; Manufacturer: Microchip; PartNumber: MCP2140T-I/SS; DatasheetVersion: revA, Sep-2003; PackageVersion: revBB, Aug-2009; PackageReference: SSOP-SS20; PackageDescription: 20-Lead Plastic Shrink Small Outline (SS) - 5.3mm Body [SSOP]; Supplier 1: Digi-Key; Supplier Part Number 1: MCP2140T-I/SS-ND; Mounting Technology: Surface Mount; Code_JEDEC: MO-150; ComponentLink1Description: Manufacturer URL; ComponentLink1URL: http://www.microchip.com/; ComponentLink2Description: Datasheet; ComponentLink2URL: http://ww1.microchip.com/downloads/en/DeviceDoc/21790a.pdf; ComponentLink3Description: Package Specification; ComponentLink3URL: http://www.microchip.com/stellent/groups/techpub_sg/documents/packagingspec/en012702.pdf
footprint SSOP-SS20_N (SOP, 20-Leads, Body 7.2x5.2mm, Pitch 0.65mm, IPC Medium Density)
footprint SSOP-SS20_L (SOP, 20-Leads, Body 7.2x5.2mm, Pitch 0.65mm, IPC High Density)
footprint SSOP-SS20_M (SOP, 20-Leads, Body 7.2x5.2mm, Pitch 0.65mm, IPC Low Density)
pins: 1 RXPDREF (in), 2 TXIR (out), 3 PHACT (out), 4 ~{RESET} (in), 5 VSS (power), 6 VSS (power), 7 NC, 8 TX (in), 9 RX (out), 10 RI (in), 11 DSR (out), 12 DTR (in), 13 CTS (out), 14 RTS (in), 15 VDD (in), 16 VDD (in), 17 OSC2/CLKI (io), 18 OSC1 (in), 19 CD (in), 20 RXPD (in)

## MCP2150-I/P
designator U?
IrDA® Standard Protocol Stack Controller Supporting DTE Applications, 18-Pin PDIP, Industrial Temperature; Manufacturer: Microchip; PartNumber: MCP2150-I/P; DatasheetVersion: revB, Mar-2003; PackageVersion: revBB, Aug-2009; PackageReference: PDIP300-P18; PackageDescription: 18-Lead Plastic Dual In-Line (P) - 300 mil Body [PDIP]; Supplier 1: Digi-Key; Supplier Part Number 1: MCP2150-I/P-ND; Mounting Technology: Through Hole; Code_JEDEC: MS-001; ComponentLink1Description: Manufacturer URL; ComponentLink1URL: http://www.microchip.com/; ComponentLink2Description: Datasheet; ComponentLink2URL: http://ww1.microchip.com/downloads/en/DeviceDoc/21655b.pdf; ComponentLink3Description: Package Specification; ComponentLink3URL: http://www.microchip.com/stellent/groups/techpub_sg/documents/packagingspec/en012702.pdf
footprint PDIP300-P18 (DIP, 18-Leads, Row Spacing 7.62mm, Pitch 2.54mm, Body 22.9x6.6mm)
pins: 1 BAUD0 (in), 2 TXIR (out), 3 RXIR (in), 4 ~{RESET} (in), 5 VSS (power), 6 EN (in), 7 TX (in), 8 RX (out), 9 RI (out), 10 DSR (out), 11 DTR (in), 12 CTS (out), 13 RTS (in), 14 VDD (power), 15 OSC2 (out), 16 OSC1/CLKI (in), 17 CD (out), 18 BAUD1 (in)

## MCP2150-I/SO
designator U?
IrDA® Standard Protocol Stack Controller Supporting DTE Applications, 18-Pin SOIC, Industrial Temperature; Manufacturer: Microchip; PartNumber: MCP2150-I/SO; DatasheetVersion: revB, Mar-2003; PackageVersion: revBB, Aug-2009; PackageReference: SOIC-SO18; PackageDescription: 18-Lead Plastic Small Outline (SO) - Wide 7.50mm Body [SOIC]; Supplier 1: Digi-Key; Supplier Part Number 1: MCP2150-I/SO-ND; Mounting Technology: Surface Mount; Code_JEDEC: MS-013; ComponentLink1Description: Manufacturer URL; ComponentLink1URL: http://www.microchip.com/; ComponentLink2Description: Datasheet; ComponentLink2URL: http://ww1.microchip.com/downloads/en/DeviceDoc/21655b.pdf; ComponentLink3Description: Package Specification; ComponentLink3URL: http://www.microchip.com/stellent/groups/techpub_sg/documents/packagingspec/en012702.pdf
footprint SOIC-SO18_N (SOIC, 18-Leads, Body 11.5x7.5mm, Pitch 1.27mm, IPC Medium Density)
footprint SOIC-SO18_L (SOIC, 18-Leads, Body 11.5x7.5mm, Pitch 1.27mm, IPC High Density)
footprint SOIC-SO18_M (SOIC, 18-Leads, Body 11.5x7.5mm, Pitch 1.27mm, IPC Low Density)
pins: 1 BAUD0 (in), 2 TXIR (out), 3 RXIR (in), 4 ~{RESET} (in), 5 VSS (power), 6 EN (in), 7 TX (in), 8 RX (out), 9 RI (out), 10 DSR (out), 11 DTR (in), 12 CTS (out), 13 RTS (in), 14 VDD (power), 15 OSC2 (out), 16 OSC1/CLKI (in), 17 CD (out), 18 BAUD1 (in)

## MCP2150-I/SORVB
designator U?
IrDA® Standard Protocol Stack Controller Supporting DTE Applications, 18-Pin SOIC, Industrial Temperature; Manufacturer: Microchip; PartNumber: MCP2150-I/SORVB; DatasheetVersion: revB, Mar-2003; PackageVersion: revBB, Aug-2009; PackageReference: SOIC-SO18; PackageDescription: 18-Lead Plastic Small Outline (SO) - Wide 7.50mm Body [SOIC]; Mounting Technology: Surface Mount; Code_JEDEC: MS-013; ComponentLink1Description: Manufacturer URL; ComponentLink1URL: http://www.microchip.com/; ComponentLink2Description: Datasheet; ComponentLink2URL: http://ww1.microchip.com/downloads/en/DeviceDoc/21655b.pdf; ComponentLink3Description: Package Specification; ComponentLink3URL: http://www.microchip.com/stellent/groups/techpub_sg/documents/packagingspec/en012702.pdf
footprint SOIC-SO18_N (SOIC, 18-Leads, Body 11.5x7.5mm, Pitch 1.27mm, IPC Medium Density)
footprint SOIC-SO18_L (SOIC, 18-Leads, Body 11.5x7.5mm, Pitch 1.27mm, IPC High Density)
footprint SOIC-SO18_M (SOIC, 18-Leads, Body 11.5x7.5mm, Pitch 1.27mm, IPC Low Density)
pins: 1 BAUD0 (in), 2 TXIR (out), 3 RXIR (in), 4 ~{RESET} (in), 5 VSS (power), 6 EN (in), 7 TX (in), 8 RX (out), 9 RI (out), 10 DSR (out), 11 DTR (in), 12 CTS (out), 13 RTS (in), 14 VDD (power), 15 OSC2 (out), 16 OSC1/CLKI (in), 17 CD (out), 18 BAUD1 (in)

## MCP2150-I/SS
designator U?
IrDA® Standard Protocol Stack Controller Supporting DTE Applications, 20-Pin SSOP, Industrial Temperature; Manufacturer: Microchip; PartNumber: MCP2150-I/SS; DatasheetVersion: revB, Mar-2003; PackageVersion: revBB, Aug-2009; PackageReference: SSOP-SS20; PackageDescription: 20-Lead Plastic Shrink Small Outline (SS) - 5.3mm Body [SSOP]; Supplier 1: Digi-Key; Supplier Part Number 1: MCP2150-I/SS-ND; Mounting Technology: Surface Mount; Code_JEDEC: MO-150; ComponentLink1Description: Manufacturer URL; ComponentLink1URL: http://www.microchip.com/; ComponentLink2Description: Datasheet; ComponentLink2URL: http://ww1.microchip.com/downloads/en/DeviceDoc/21655b.pdf; ComponentLink3Description: Package Specification; ComponentLink3URL: http://www.microchip.com/stellent/groups/techpub_sg/documents/packagingspec/en012702.pdf
footprint SSOP-SS20_N (SOP, 20-Leads, Body 7.2x5.2mm, Pitch 0.65mm, IPC Medium Density)
footprint SSOP-SS20_L (SOP, 20-Leads, Body 7.2x5.2mm, Pitch 0.65mm, IPC High Density)
footprint SSOP-SS20_M (SOP, 20-Leads, Body 7.2x5.2mm, Pitch 0.65mm, IPC Low Density)
pins: 1 BAUD0 (in), 2 TXIR (out), 3 RXIR (in), 4 ~{RESET} (in), 5 VSS (power), 6 VSS (power), 7 EN (in), 8 TX (in), 9 RX (out), 10 RI (out), 11 DSR (out), 12 DTR (in), 13 CTS (out), 14 RTS (in), 15 VDD (power), 16 VDD (power), 17 OSC2 (out), 18 OSC1/CLKI (in), 19 CD (out), 20 BAUD1 (in)

## MCP2150T-I/SO
designator U?
IrDA® Standard Protocol Stack Controller Supporting DTE Applications, 18-Pin SOIC, Industrial Temperature, Tape and Reel; Manufacturer: Microchip; PartNumber: MCP2150T-I/SO; DatasheetVersion: revB, Mar-2003; PackageVersion: revBB, Aug-2009; PackageReference: SOIC-SO18; PackageDescription: 18-Lead Plastic Small Outline (SO) - Wide 7.50mm Body [SOIC]; Supplier 1: Digi-Key; Supplier Part Number 1: MCP2150T-I/SO-ND; Mounting Technology: Surface Mount; Code_JEDEC: MS-013; ComponentLink1Description: Manufacturer URL; ComponentLink1URL: http://www.microchip.com/; ComponentLink2Description: Datasheet; ComponentLink2URL: http://ww1.microchip.com/downloads/en/DeviceDoc/21655b.pdf; ComponentLink3Description: Package Specification; ComponentLink3URL: http://www.microchip.com/stellent/groups/techpub_sg/documents/packagingspec/en012702.pdf
footprint SOIC-SO18_N (SOIC, 18-Leads, Body 11.5x7.5mm, Pitch 1.27mm, IPC Medium Density)
footprint SOIC-SO18_L (SOIC, 18-Leads, Body 11.5x7.5mm, Pitch 1.27mm, IPC High Density)
footprint SOIC-SO18_M (SOIC, 18-Leads, Body 11.5x7.5mm, Pitch 1.27mm, IPC Low Density)
pins: 1 BAUD0 (in), 2 TXIR (out), 3 RXIR (in), 4 ~{RESET} (in), 5 VSS (power), 6 EN (in), 7 TX (in), 8 RX (out), 9 RI (out), 10 DSR (out), 11 DTR (in), 12 CTS (out), 13 RTS (in), 14 VDD (power), 15 OSC2 (out), 16 OSC1/CLKI (in), 17 CD (out), 18 BAUD1 (in)

## MCP2150T-I/SS
designator U?
IrDA® Standard Protocol Stack Controller Supporting DTE Applications, 20-Pin SSOP, Industrial Temperature, Tape and Reel; Manufacturer: Microchip; PartNumber: MCP2150T-I/SS; DatasheetVersion: revB, Mar-2003; PackageVersion: revBB, Aug-2009; PackageReference: SSOP-SS20; PackageDescription: 20-Lead Plastic Shrink Small Outline (SS) - 5.3mm Body [SSOP]; Supplier 1: Digi-Key; Supplier Part Number 1: MCP2150T-I/SS-ND; Mounting Technology: Surface Mount; Code_JEDEC: MO-150; ComponentLink1Description: Manufacturer URL; ComponentLink1URL: http://www.microchip.com/; ComponentLink2Description: Datasheet; ComponentLink2URL: http://ww1.microchip.com/downloads/en/DeviceDoc/21655b.pdf; ComponentLink3Description: Package Specification; ComponentLink3URL: http://www.microchip.com/stellent/groups/techpub_sg/documents/packagingspec/en012702.pdf
footprint SSOP-SS20_N (SOP, 20-Leads, Body 7.2x5.2mm, Pitch 0.65mm, IPC Medium Density)
footprint SSOP-SS20_L (SOP, 20-Leads, Body 7.2x5.2mm, Pitch 0.65mm, IPC High Density)
footprint SSOP-SS20_M (SOP, 20-Leads, Body 7.2x5.2mm, Pitch 0.65mm, IPC Low Density)
pins: 1 BAUD0 (in), 2 TXIR (out), 3 RXIR (in), 4 ~{RESET} (in), 5 VSS (power), 6 VSS (power), 7 EN (in), 8 TX (in), 9 RX (out), 10 RI (out), 11 DSR (out), 12 DTR (in), 13 CTS (out), 14 RTS (in), 15 VDD (power), 16 VDD (power), 17 OSC2 (out), 18 OSC1/CLKI (in), 19 CD (out), 20 BAUD1 (in)

## MCP2155-I/P
designator U?
IrDA® Standard Protocol Stack Controller Supporting DCE Applications, 18-Pin PDIP, Industrial Temperature; Manufacturer: Microchip; PartNumber: MCP2155-I/P; DatasheetVersion: revA, Mar-2003; PackageVersion: revBB, Aug-2009; PackageReference: PDIP300-P18; PackageDescription: 18-Lead Plastic Dual In-Line (P) - 300 mil Body [PDIP]; Supplier 1: Digi-Key; Supplier Part Number 1: MCP2155-I/P-ND; Mounting Technology: Through Hole; Code_JEDEC: MS-001; ComponentLink1Description: Manufacturer URL; ComponentLink1URL: http://www.microchip.com/; ComponentLink2Description: Datasheet; ComponentLink2URL: http://ww1.microchip.com/downloads/en/DeviceDoc/21690a.pdf; ComponentLink3Description: Package Specification; ComponentLink3URL: http://www.microchip.com/stellent/groups/techpub_sg/documents/packagingspec/en012702.pdf
footprint PDIP300-P18 (DIP, 18-Leads, Row Spacing 7.62mm, Pitch 2.54mm, Body 22.9x6.6mm)
pins: 1 BAUD0 (in), 2 TXIR (out), 3 RXIR (in), 4 ~{RESET} (in), 5 VSS (power), 6 EN (in), 7 TX (in), 8 RX (out), 9 RI (out), 10 DSR (out), 11 DTR (in), 12 CTS (out), 13 RTS (in), 14 VDD (power), 15 OSC2 (out), 16 OSC1/CLKI (in), 17 CD (out), 18 BAUD1 (in)

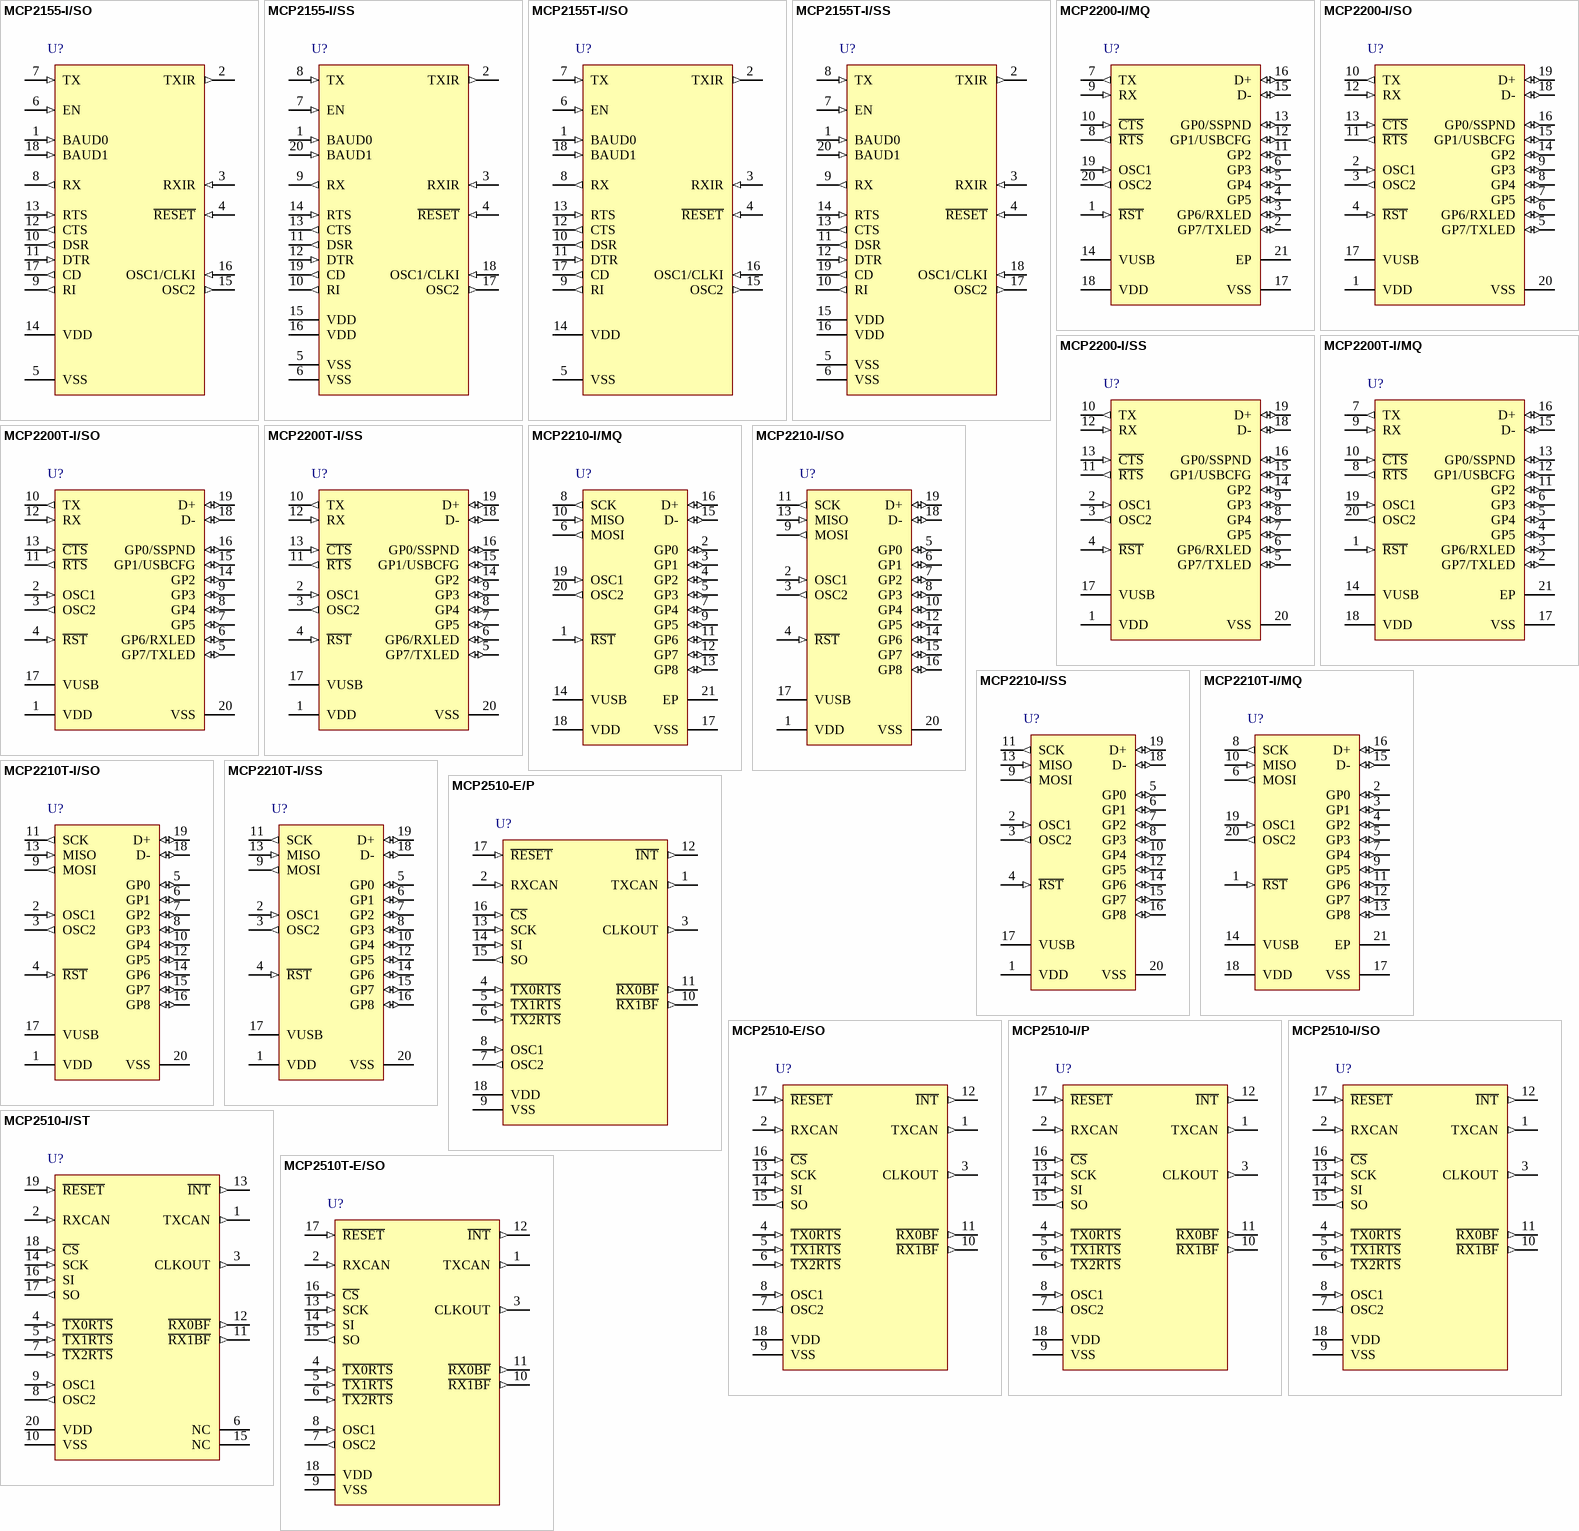
[diagram p8: symbols MCP2155-I/SO to MCP2510T-E/SO]

## MCP2155-I/SO
designator U?
IrDA® Standard Protocol Stack Controller Supporting DCE Applications, 18-Pin SOIC, Industrial Temperature; Manufacturer: Microchip; PartNumber: MCP2155-I/SO; DatasheetVersion: revA, Mar-2003; PackageVersion: revBB, Aug-2009; PackageReference: SOIC-SO18; PackageDescription: 18-Lead Plastic Small Outline (SO) - Wide 7.50mm Body [SOIC]; Supplier 1: Digi-Key; Supplier Part Number 1: MCP2155-I/SO-ND; Mounting Technology: Surface Mount; Code_JEDEC: MS-013; ComponentLink1Description: Manufacturer URL; ComponentLink1URL: http://www.microchip.com/; ComponentLink2Description: Datasheet; ComponentLink2URL: http://ww1.microchip.com/downloads/en/DeviceDoc/21690a.pdf; ComponentLink3Description: Package Specification; ComponentLink3URL: http://www.microchip.com/stellent/groups/techpub_sg/documents/packagingspec/en012702.pdf
footprint SOIC-SO18_N (SOIC, 18-Leads, Body 11.5x7.5mm, Pitch 1.27mm, IPC Medium Density)
footprint SOIC-SO18_L (SOIC, 18-Leads, Body 11.5x7.5mm, Pitch 1.27mm, IPC High Density)
footprint SOIC-SO18_M (SOIC, 18-Leads, Body 11.5x7.5mm, Pitch 1.27mm, IPC Low Density)
pins: 1 BAUD0 (in), 2 TXIR (out), 3 RXIR (in), 4 ~{RESET} (in), 5 VSS (power), 6 EN (in), 7 TX (in), 8 RX (out), 9 RI (out), 10 DSR (out), 11 DTR (in), 12 CTS (out), 13 RTS (in), 14 VDD (power), 15 OSC2 (out), 16 OSC1/CLKI (in), 17 CD (out), 18 BAUD1 (in)

## MCP2155-I/SS
designator U?
IrDA® Standard Protocol Stack Controller Supporting DCE Applications, 20-Pin SSOP, Industrial Temperature; Manufacturer: Microchip; PartNumber: MCP2155-I/SS; DatasheetVersion: revA, Mar-2003; PackageVersion: revBB, Aug-2009; PackageReference: SSOP-SS20; PackageDescription: 20-Lead Plastic Shrink Small Outline (SS) - 5.3mm Body [SSOP]; Supplier 1: Digi-Key; Supplier Part Number 1: MCP2155-I/SS-ND; Mounting Technology: Surface Mount; Code_JEDEC: MO-150; ComponentLink1Description: Manufacturer URL; ComponentLink1URL: http://www.microchip.com/; ComponentLink2Description: Datasheet; ComponentLink2URL: http://ww1.microchip.com/downloads/en/DeviceDoc/21690a.pdf; ComponentLink3Description: Package Specification; ComponentLink3URL: http://www.microchip.com/stellent/groups/techpub_sg/documents/packagingspec/en012702.pdf
footprint SSOP-SS20_N (SOP, 20-Leads, Body 7.2x5.2mm, Pitch 0.65mm, IPC Medium Density)
footprint SSOP-SS20_L (SOP, 20-Leads, Body 7.2x5.2mm, Pitch 0.65mm, IPC High Density)
footprint SSOP-SS20_M (SOP, 20-Leads, Body 7.2x5.2mm, Pitch 0.65mm, IPC Low Density)
pins: 1 BAUD0 (in), 2 TXIR (out), 3 RXIR (in), 4 ~{RESET} (in), 5 VSS (power), 6 VSS (power), 7 EN (in), 8 TX (in), 9 RX (out), 10 RI (out), 11 DSR (out), 12 DTR (in), 13 CTS (out), 14 RTS (in), 15 VDD (power), 16 VDD (power), 17 OSC2 (out), 18 OSC1/CLKI (in), 19 CD (out), 20 BAUD1 (in)

## MCP2155T-I/SO
designator U?
IrDA® Standard Protocol Stack Controller Supporting DCE Applications, 18-Pin SOIC, Industrial Temperature, Tape and Reel; Manufacturer: Microchip; PartNumber: MCP2155T-I/SO; DatasheetVersion: revA, Mar-2003; PackageVersion: revBB, Aug-2009; PackageReference: SOIC-SO18; PackageDescription: 18-Lead Plastic Small Outline (SO) - Wide 7.50mm Body [SOIC]; Supplier 1: Digi-Key; Supplier Part Number 1: MCP2155T-I/SO-ND; Mounting Technology: Surface Mount; Code_JEDEC: MS-013; ComponentLink1Description: Manufacturer URL; ComponentLink1URL: http://www.microchip.com/; ComponentLink2Description: Datasheet; ComponentLink2URL: http://ww1.microchip.com/downloads/en/DeviceDoc/21690a.pdf; ComponentLink3Description: Package Specification; ComponentLink3URL: http://www.microchip.com/stellent/groups/techpub_sg/documents/packagingspec/en012702.pdf
footprint SOIC-SO18_N (SOIC, 18-Leads, Body 11.5x7.5mm, Pitch 1.27mm, IPC Medium Density)
footprint SOIC-SO18_L (SOIC, 18-Leads, Body 11.5x7.5mm, Pitch 1.27mm, IPC High Density)
footprint SOIC-SO18_M (SOIC, 18-Leads, Body 11.5x7.5mm, Pitch 1.27mm, IPC Low Density)
pins: 1 BAUD0 (in), 2 TXIR (out), 3 RXIR (in), 4 ~{RESET} (in), 5 VSS (power), 6 EN (in), 7 TX (in), 8 RX (out), 9 RI (out), 10 DSR (out), 11 DTR (in), 12 CTS (out), 13 RTS (in), 14 VDD (power), 15 OSC2 (out), 16 OSC1/CLKI (in), 17 CD (out), 18 BAUD1 (in)

## MCP2155T-I/SS
designator U?
IrDA® Standard Protocol Stack Controller Supporting DCE Applications, 20-Pin SSOP, Industrial Temperature, Tape and Reel; Manufacturer: Microchip; PartNumber: MCP2155T-I/SS; DatasheetVersion: revA, Mar-2003; PackageVersion: revBB, Aug-2009; PackageReference: SSOP-SS20; PackageDescription: 20-Lead Plastic Shrink Small Outline (SS) - 5.3mm Body [SSOP]; Supplier 1: Digi-Key; Supplier Part Number 1: MCP2155T-I/SS-ND; Mounting Technology: Surface Mount; Code_JEDEC: MO-150; ComponentLink1Description: Manufacturer URL; ComponentLink1URL: http://www.microchip.com/; ComponentLink2Description: Datasheet; ComponentLink2URL: http://ww1.microchip.com/downloads/en/DeviceDoc/21690a.pdf; ComponentLink3Description: Package Specification; ComponentLink3URL: http://www.microchip.com/stellent/groups/techpub_sg/documents/packagingspec/en012702.pdf
footprint SSOP-SS20_N (SOP, 20-Leads, Body 7.2x5.2mm, Pitch 0.65mm, IPC Medium Density)
footprint SSOP-SS20_L (SOP, 20-Leads, Body 7.2x5.2mm, Pitch 0.65mm, IPC High Density)
footprint SSOP-SS20_M (SOP, 20-Leads, Body 7.2x5.2mm, Pitch 0.65mm, IPC Low Density)
pins: 1 BAUD0 (in), 2 TXIR (out), 3 RXIR (in), 4 ~{RESET} (in), 5 VSS (power), 6 VSS (power), 7 EN (in), 8 TX (in), 9 RX (out), 10 RI (out), 11 DSR (out), 12 DTR (in), 13 CTS (out), 14 RTS (in), 15 VDD (power), 16 VDD (power), 17 OSC2 (out), 18 OSC1/CLKI (in), 19 CD (out), 20 BAUD1 (in)

## MCP2200-I/MQ
designator U?
USB 2.0 to UART Protocol Converter with GPIO, 20-Pin QFN, Industrial Temperature; Manufacturer: Microchip; PartNumber: MCP2200-I/MQ; DatasheetVersion: revB, Mar-2011; PackageVersion: revBB, Aug-2009; PackageReference: QFN-MQ20; PackageDescription: 20-Lead Plastic Quad Flat, No Lead Package (MQ) - 5x5x0.9 mm Body [QFN]; Supplier 1: Digi-Key; Supplier Part Number 1: MCP2200-I/MQ-ND; Mounting Technology: Surface Mount; ComponentLink1Description: Manufacturer URL; ComponentLink1URL: http://www.microchip.com/; ComponentLink2Description: Datasheet; ComponentLink2URL: http://ww1.microchip.com/downloads/en/DeviceDoc/22228B.pdf; ComponentLink3Description: Package Specification; ComponentLink3URL: http://www.microchip.com/stellent/groups/techpub_sg/documents/packagingspec/en012702.pdf
footprint QFN-MQ20_N (QFN, 20-Leads, Body 5x5mm, Pitch 0.65mm, Thermal Pad 3.4x3.4mm, IPC Medium Density)
footprint QFN-MQ20_L (QFN, 20-Leads, Body 5x5mm, Pitch 0.65mm, Thermal Pad 3.4x3.4mm, IPC High Density)
footprint QFN-MQ20_M (QFN, 20-Leads, Body 5x5mm, Pitch 0.65mm, Thermal Pad 3.4x3.4mm, IPC Low Density)
pins: 1 ~{RST} (in), 2 GP7/TXLED (io), 3 GP6/RXLED (io), 4 GP5 (io), 5 GP4 (io), 6 GP3 (io), 7 TX (out), 8 ~{RTS} (out), 9 RX (in), 10 ~{CTS} (in), 11 GP2 (io), 12 GP1/USBCFG (io), 13 GP0/SSPND (io), 14 VUSB (power), 15 D- (io), 16 D+ (io), 17 VSS (power), 18 VDD (power), 19 OSC1 (in), 20 OSC2 (out), 21 EP

## MCP2200-I/SO
designator U?
USB 2.0 to UART Protocol Converter with GPIO, 20-Pin SOIC, Industrial Temperature; Manufacturer: Microchip; PartNumber: MCP2200-I/SO; DatasheetVersion: revB, Mar-2011; PackageVersion: revBB, Aug-2009; PackageReference: SOIC-SO20; PackageDescription: 20-Lead Plastic Small Outline (SO) - Wide 7.50mm Body [SOIC]; Supplier 1: Digi-Key; Supplier Part Number 1: MCP2200-I/SO-ND; Mounting Technology: Surface Mount; Code_JEDEC: MS-013-AC; Code_IPC: SOIC127P1030-20; ComponentLink1Description: Manufacturer URL; ComponentLink1URL: http://www.microchip.com/; ComponentLink2Description: Datasheet; ComponentLink2URL: http://ww1.microchip.com/downloads/en/DeviceDoc/22228B.pdf; ComponentLink3Description: Package Specification; ComponentLink3URL: http://www.microchip.com/stellent/groups/techpub_sg/documents/packagingspec/en012702.pdf
footprint SOIC-SO20_N (SOIC, 20-Leads, Body 12.8x7.5mm, Pitch 1.27mm, IPC Medium Density)
footprint SOIC-SO20_L (SOIC, 20-Leads, Body 12.8x7.5mm, Pitch 1.27mm, IPC High Density)
footprint SOIC-SO20_M (SOIC, 20-Leads, Body 12.8x7.5mm, Pitch 1.27mm, IPC Low Density)
pins: 1 VDD (power), 2 OSC1 (in), 3 OSC2 (out), 4 ~{RST} (in), 5 GP7/TXLED (io), 6 GP6/RXLED (io), 7 GP5 (io), 8 GP4 (io), 9 GP3 (io), 10 TX (out), 11 ~{RTS} (out), 12 RX (in), 13 ~{CTS} (in), 14 GP2 (io), 15 GP1/USBCFG (io), 16 GP0/SSPND (io), 17 VUSB (power), 18 D- (io), 19 D+ (io), 20 VSS (power)